# EAGLE library part AT25* (library atmel)
SPI bus serial EEPROM
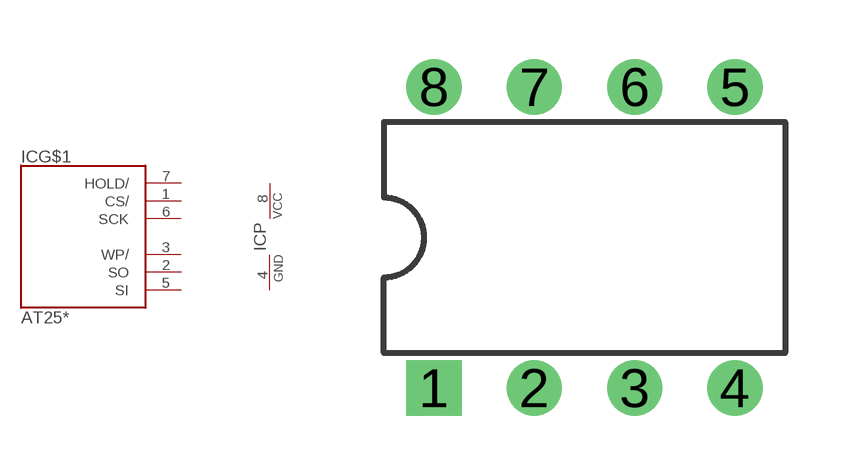
[diagram p3: symbol with the pads of DIL08; footprint DIL08]

Designator prefix IC; gates G$1=250X0 P=PWR

## AT25P  [DIL08]
1  G$1:CS/  in
2  G$1:SO  in
3  G$1:WP/  in
4  P:GND  pwr
5  G$1:SI
6  G$1:SCK
7  G$1:HOLD/  in
8  P:VCC  pwr

## Footprint DIL08 (pad centres in mm)
DIL package, pin row distance 300mil
drill 0.8 pad 1.4 square: 1 -3.81,-3.81
drill 0.8 pad 1.4: 2 -1.27,-3.81; 3 1.27,-3.81; 4 3.81,-3.81; 5 3.81,3.81; 6 1.27,3.81; 7 -1.27,3.81; 8 -3.81,3.81